# Altium footprint library AltiumLibrary.PcbLib: 85 footprints (part 4 of 6)
Each footprint in its own frame and in the unit in brackets; x right, y up, seen from the top. Pads: shape width x height; smd on the part's side, far side on the other; paste and mask are expansions set on the pad; w line width, h text height; cw(c..) or ccw(c..) is an arc to the next point about the centre after c.
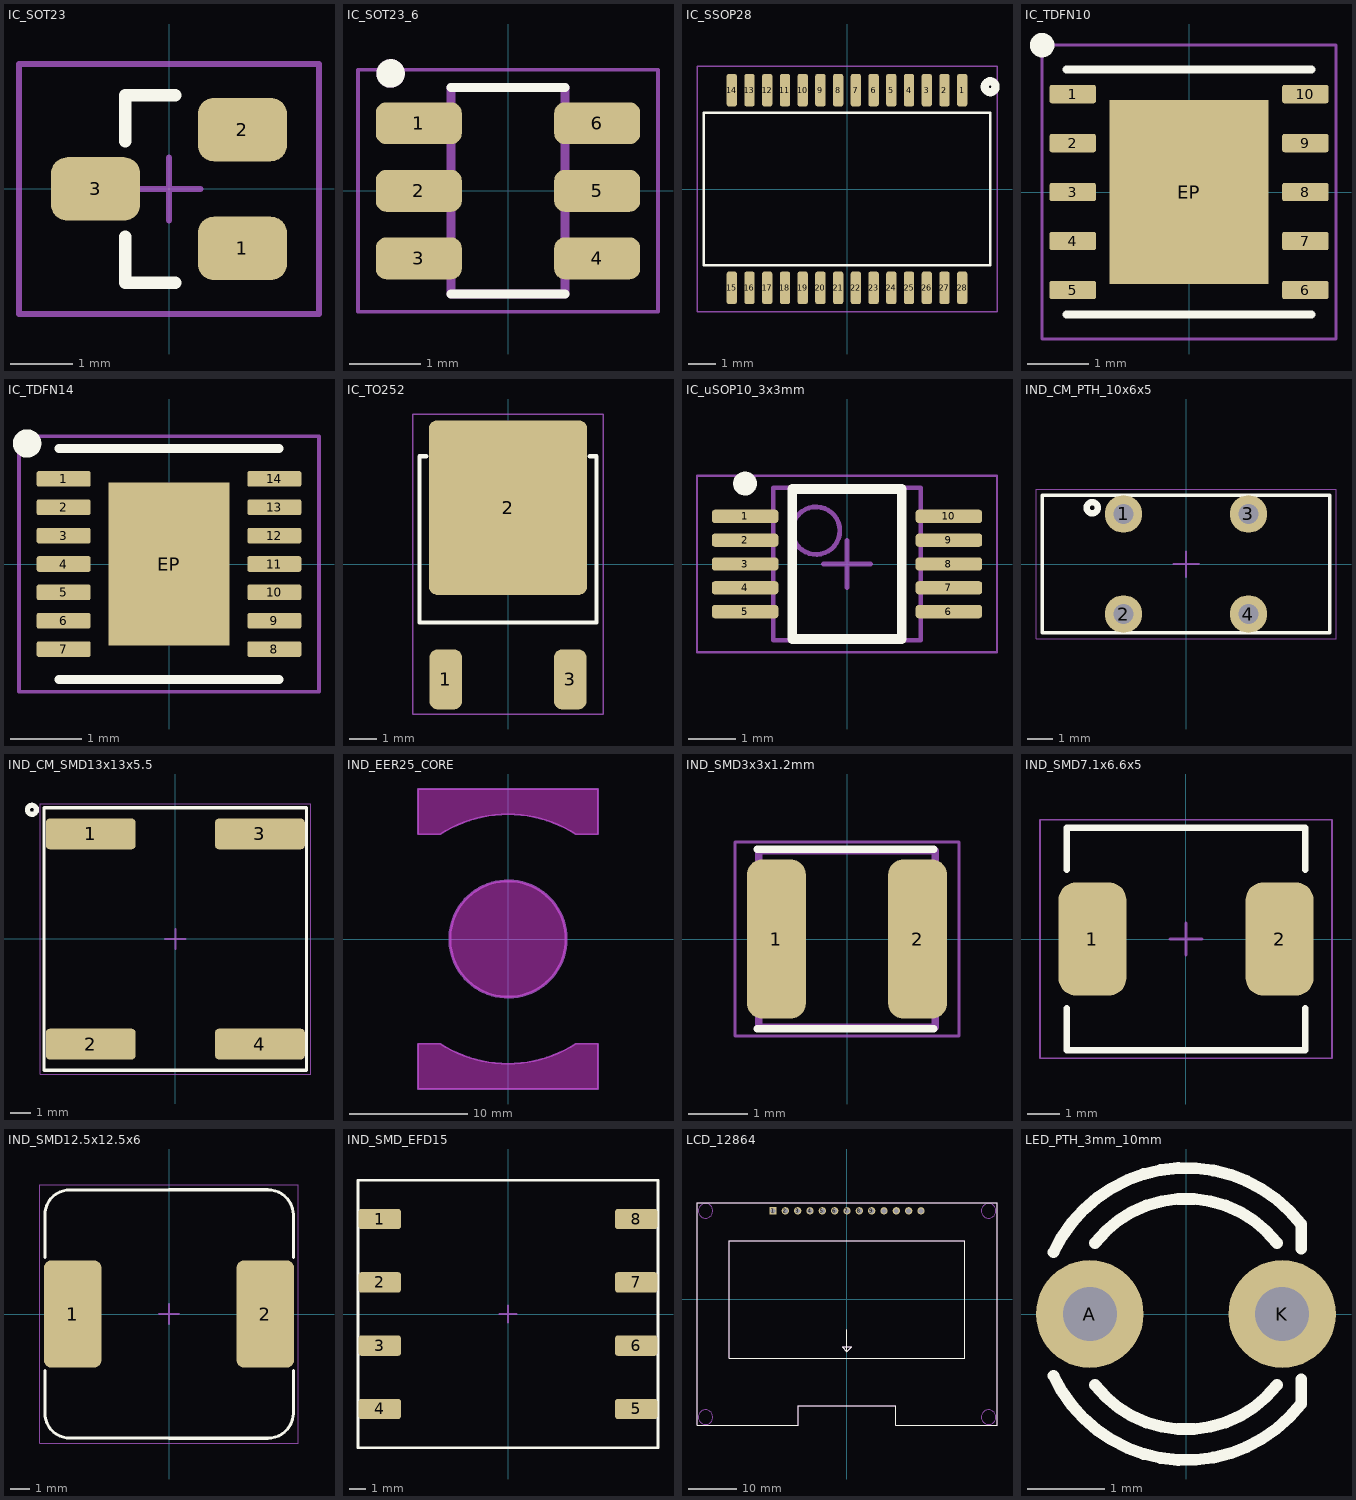
[diagram p3: the footprints below, top view; thin cyan lines are the x and y axes]

## IC_SOT23 [mil] "Generic SOT23 package"
height 62.99
pads (3):
  rrect50% 56x40 smd: 1(46.26,-37.4) 2(46.26,37.4) 3(-46.26,0)
Top Overlay:
  lines w7.87: -27.56,-30 -27.56,-59.06 3.94,-59.06 ; -27.56,30 -27.56,59.06 3.94,59.06
Top Courtyard:
  lines w3.94: -19.69,0 19.68,0 ; 0,-19.69 0,19.68 ; -94.49,-78.74 94.49,-78.74 94.49,78.74 -94.49,78.74 -94.49,-78.74
3D body "SW3DPS-SOT-23-DEFAULT.STEP": height 43.78, standoff 0.48, extent -49.22,-59.06 49.21,59.05

## IC_SOT23_6 [mm]
height 1.45
pads (6):
  rrect50% 1.21x0.59 smd: 1(-1.255,0.95) 2(-1.255,0) 3(-1.255,-0.95) 4(1.255,-0.95) 5(1.255,0) 6(1.255,0.95)
Top Overlay:
  circle w0.2: c-1.651,1.651 r0.1
  lines w0.127: -0.8,-1.45 0.8,-1.45 ; -0.8,1.45 0.8,1.45
Top Assembly (Mech13):
  circle w0.2: c-1.651,1.651 r0.1
  lines w0.127: -0.8,-1.45 -0.8,1.45 0.8,1.45 0.8,-1.45 -0.8,-1.45
Top Courtyard:
  lines w0.05: -2.11,-1.7 -2.11,1.7 2.11,1.7 2.11,-1.7 -2.11,-1.7
3D body "step_temp.STEP": height 1.45, standoff 0, extent -1.4,-1.45 1.4,1.45

## IC_SSOP28 [mm] "SSOP-28 Package"
height 2
pads (28):
  rrect50% 0.38x1.2 smd: 1(4.225,3.625) 2(3.575,3.625) 3(2.925,3.625) 4(2.275,3.625) 5(1.625,3.625) 6(0.975,3.625) 7(0.325,3.625) 8(-0.325,3.625) 9(-0.975,3.625) 10(-1.625,3.625) 11(-2.275,3.625) 12(-2.925,3.625) 13(-3.575,3.625) 14(-4.225,3.625) 15(-4.225,-3.625) 16(-3.575,-3.625) 17(-2.925,-3.625) 18(-2.275,-3.625) 19(-1.625,-3.625) 20(-0.975,-3.625) 21(-0.325,-3.625) 22(0.325,-3.625) 23(0.975,-3.625) 24(1.625,-3.625) 25(2.275,-3.625) 26(2.925,-3.625) 27(3.575,-3.625) 28(4.225,-3.625)
Top Overlay:
  circle w0.3: c5.25,3.75 r0.2
  lines w0.1: -5.25,-2.8 5.25,-2.8 5.25,2.8 -5.25,2.8 -5.25,-2.8
Top Courtyard:
  lines w0.05: -5.5,-4.5 5.5,-4.5 5.5,4.5 -5.5,4.5 -5.5,-0.75 -5.5,-4.5
3D body "SSOP-28.STEP": height 1.92, standoff -0.03, extent -5.25,-4.125 5.25,4.1

## IC_TDFN10 [mm] "Generic TDFN10 package 4x4mm"
height 0.75
pads (11):
  rrect25% 0.76x0.3 smd: 1(-1.9,1.6) 2(-1.9,0.8) 3(-1.9,0) 4(-1.9,-0.8) 5(-1.9,-1.6) 6(1.9,-1.6) 7(1.9,-0.8) 8(1.9,0) 9(1.9,0.8) 10(1.9,1.6)
  rect 2.6x3 smd paste-2: EP(0,0)
Top Overlay:
  circle w0.2: c-2.4,2.4 r0.1
  lines w0.127: -2,-2 2,-2 ; -2,2 2,2
Top Paste:
  region: 0.54,-0.73 -0.54,-0.73 -0.54,0.73 0.54,0.73
Top Courtyard:
  lines w0.05: -2.4,-2.4 -2.4,2.4 2.4,2.4 2.4,-2.4 -2.4,-2.4

## IC_TDFN14 [mm] "Generic TDFN14 package 3x3mm"
height 0.8
pads (15):
  rrect25% 0.76x0.22 smd: 1(-1.485,1.2) 2(-1.485,0.8) 3(-1.485,0.4) 4(-1.485,0) 5(-1.485,-0.4) 6(-1.485,-0.8) 7(-1.485,-1.2) 8(1.485,-1.2) 9(1.485,-0.8) 10(1.485,-0.4) 11(1.485,0) 12(1.485,0.4) 13(1.485,0.8) 14(1.485,1.2)
  rect 1.7x2.3 smd paste-2: EP(0,0)
Top Overlay:
  circle w0.2: c-2,1.7 r0.1
  lines w0.127: -1.55,-1.63 1.55,-1.63 ; -1.55,1.63 1.55,1.63
Top Paste:
  region: 0.54,-0.73 -0.54,-0.73 -0.54,0.73 0.54,0.73
Top Courtyard:
  lines w0.05: -2.115,-1.8 2.115,-1.8 2.115,1.8 -2.115,1.8 -2.115,-1.8
3D body "step_temp.STEP": height 0.8, standoff 0, extent -1.5,-1.5 1.5,1.5

## IC_TO252 [mm] "Generic TO252 package 6.35x9.4mm"
pads (3):
  rrect50% 1.2x2.2 smd: 1(-2.28,-4.23) 3(2.28,-4.23)
  rrect10% 5.8x6.4 smd paste-10: 2(0,2.07)
Top Overlay:
  lines w0.152: -3,3.95 -3.25,3.95 -3.25,-2.15 3.25,-2.15 3.25,3.95 3,3.95
Top Paste:
  rectangle: 0.15,-1.08 2.85,1.92
  rectangle: 0.15,2.22 2.85,5.22
  region: -0.166,1.89 -2.866,1.89 -2.866,-1.11 -0.166,-1.11
  region: -0.166,5.19 -2.866,5.19 -2.866,2.19 -0.166,2.19
Top Courtyard:
  lines w0.05: -3.5,-5.5 -2,-5.5 3.5,-5.5 3.5,5.5 -3.5,5.5 -3.5,-5.5
3D body "TSM60NC1R5CP ROG--3DModel-STEP-554148.STEP": height 2.39, standoff 0.01, extent -3.285,-4.95 3.285,4.95

## IC_uSOP10_3x3mm [mm] "TSSOP, 10-Leads, Body 2,95x3,00mm, Pitch 0,50mm, IPC Medium Density"
height 1.1
pads (10):
  rrect50% 1.4x0.28 smd: 1(-2.14,1) 2(-2.14,0.5) 3(-2.14,0) 4(-2.14,-0.5) 5(-2.14,-1) 6(2.14,-1) 7(2.14,-0.5) 8(2.14,0) 9(2.14,0.5) 10(2.14,1)
Top Overlay:
  circle w0.25: c-2.14,1.69 r0.125
  lines w0.2: -1.15,-1.575 1.15,-1.575 1.15,1.575 -1.15,1.575 -1.15,-1.575
Top Assembly (Mech13):
  circle w0.1: c-0.65,0.7 r0.5
  lines w0.1: -1.55,-1.6 1.55,-1.6 1.55,1.6 -1.55,1.6 -1.55,-1.6
Top Courtyard:
  lines w0.05: -3.15,-1.85 3.15,-1.85 3.15,1.85 -3.15,1.85 -3.15,-1.85
  lines w0.1: -0.5,0 0.5,0 ; 0,-0.5 0,0.5
3D body "TSSOP50P490X110-10N.step": height 1.1, standoff 0, extent -2.45,-1.6 2.45,1.6

## IND_CM_PTH_10x6x5 [mm] "Toroidal common mode choke - 10x6x5 core"
height 5.5
pads (4):
  round 1.5 hole 0.8: 1(-2.5,2) 2(-2.5,-2) 3(2.5,2) 4(2.5,-2)
Top Overlay:
  circle w0.254: c-3.75,2.25 r0.224
  lines w0.152: -5.75,-2.75 5.75,-2.75 5.75,2.75 -5.75,2.75 -5.75,-2.75
Top Courtyard:
  lines w0.05: -6,-3 -6,3 6,3 6,-3 -6,-3
  lines w0.1: -0.5,0 0.5,0 ; 0,-0.5 0,0.5
3D body "Toroide_CM_10x6x5.step": height 11.03, standoff -0.01, extent -5.55,-2.55 5.55,2.55

## IND_CM_SMD13x13x5.5 [mm] "CR7915-AL common mode choke"
height 5.5
pads (4):
  rrect25% 4.45x1.52 smd: 1(-4.19,5.205) 2(-4.19,-5.205) 3(4.19,5.205) 4(4.19,-5.205)
Top Overlay:
  circle w0.254: c-7.1,6.4 r0.224
  lines w0.152: -6.5,-6.5 -6.5,6.5 6.5,6.5 6.5,-6.5 -6.5,-6.5
Top Courtyard:
  lines w0.05: -6.7,-6.7 6.7,-6.7 6.7,6.7 -6.7,6.7 -6.7,-6.7
  lines w0.1: -0.5,0 0.5,0 ; 0,-0.5 0,0.5
3D body "CR7915-AL.STEP": height 5.47, standoff 0.01, extent -6.35,-6.35 6.35,6.35

## IND_EER25_CORE [mm]
Keep-Out Layer:
  board cut-out: 0,-4.95 -0.324,-4.95 -0.968,-4.865 -1.595,-4.697 -2.194,-4.449 -2.756,-4.125 -3.271,-3.73 -3.73,-3.271 -4.125,-2.756 -4.449,-2.194 -4.697,-1.595 -4.865,-0.968 -4.95,-0.324 -4.95,0 -4.95,0.324 -4.865,0.968 -4.697,1.595 -4.449,2.194 -4.125,2.756 -3.73,3.271 -3.271,3.73 -2.756,4.125 -2.194,4.449 -1.595,4.697 -0.968,4.865 -0.324,4.95 0,4.95 0.324,4.95 0.968,4.865 1.595,4.697 2.194,4.449 2.756,4.125 3.271,3.73 3.73,3.271 4.125,2.756 4.449,2.194 4.697,1.595 4.865,0.968 4.95,0.324 4.95,0 4.95,-0.324 4.865,-0.968 4.697,-1.595 4.449,-2.194 4.125,-2.756 3.73,-3.271 3.271,-3.73 2.756,-4.125 2.194,-4.449 1.595,-4.697 0.968,-4.865 0.324,-4.95
  board cut-out: -7.65,8.9 -5.758,8.9 -5.325,9.165 -4.425,9.632 -3.484,10.011 -2.512,10.298 -1.516,10.491 -0.507,10.588 0.507,10.588 1.516,10.491 2.512,10.298 3.484,10.011 4.425,9.632 5.325,9.165 5.758,8.9 7.65,8.9 7.65,12.75 -7.65,12.75
  board cut-out: 7.65,-8.9 5.758,-8.9 5.325,-9.165 4.425,-9.632 3.484,-10.011 2.512,-10.298 1.516,-10.491 0.507,-10.588 -0.507,-10.588 -1.516,-10.491 -2.512,-10.298 -3.484,-10.011 -4.425,-9.632 -5.325,-9.165 -5.758,-8.9 -7.65,-8.9 -7.65,-12.75 7.65,-12.75
Mechanical 6:
  circle w0.254: c0,0 r4.95
  lines w0.152: -7.65,-12.75 7.65,-12.75 7.65,-8.9 5.758,-8.9 cw(c0,0) -5.758,-8.9 -7.65,-8.9 -7.65,-12.75 ; -7.65,8.9 -7.65,12.75 7.65,12.75 7.65,8.9 5.758,8.9 ccw(c0,0) -5.758,8.9 -7.65,8.9
3D body "Untitled.step": height 3, standoff -5, extent -7.4,-12.5 7.4,12.5

## IND_SMD3x3x1.2mm [mm]
height 1.2
pads (2):
  rrect50% 1x2.7 smd: 1(-1.2,0) 2(1.2,0)
Top Overlay:
  lines w0.127: -1.524,-1.524 1.476,-1.524 ; -1.524,1.524 1.476,1.524
Top Assembly (Mech13):
  lines w0.127: -1.5,-1.5 1.5,-1.5 1.5,1.5 -1.5,1.5 -1.5,-1.5
Top Courtyard:
  lines w0.05: -1.905,-1.651 1.905,-1.651 1.905,1.651 -1.905,1.651 -1.905,-1.651
3D body "LQH3NPZ4R7MJRL.STEP": height 1.21, standoff 0.01, extent -1.5,-1.5 1.5,1.5

## IND_SMD7.1x6.6x5 [mm] "Precision Wire Wound Inductor, 2-Leads, Body 7,10x6,60mm, IPC Medium Density"
height 5
pads (2):
  rrect50% 2.1x3.5 smd: 1(-2.9,0) 2(2.9,0)
Top Overlay:
  lines w0.2: -3.7,-2.15 -3.7,-3.45 3.7,-3.45 3.7,-2.15 ; -3.7,2.15 -3.7,3.45 3.7,3.45 3.7,2.15
Top Courtyard:
  lines w0.05: -4.525,-3.7 -4.525,3.7 4.525,3.7 4.525,-3.7 -4.525,-3.7
  lines w0.1: -0.5,0 0.5,0 ; 0,-0.5 0,0.5
3D body "sss.step": height 2.81, standoff 0.01, extent -3.65,-3.3 3.65,3.3

## IND_SMD12.5x12.5x6 [mm] "Wire Wound Inductor, 2-Leads"
height 6
pads (2):
  rrect25% 2.9x5.4 smd: 1(-4.85,0) 2(4.85,0)
Top Overlay:
  lines w0.152: -6.25,-2.85 -6.25,-4.98 ccw(c-4.98,-4.98) -4.98,-6.25 ; -6.25,2.85 -6.25,4.98 cw(c-4.98,4.98) -4.98,6.25 -4.93,6.25 -3.7,6.25 0,6.25 ; -4.93,-6.25 -3.7,-6.25 0,-6.25 ; 0.005,-6.254 3.705,-6.254 4.935,-6.254 ; 0.005,6.254 3.705,6.254 4.935,6.254 ; 4.985,-6.254 ccw(c4.985,-4.984) 6.255,-4.984 6.255,-2.854 ; 4.985,6.254 cw(c4.985,4.984) 6.255,4.984 6.255,2.854
Top Courtyard:
  lines w0.05: -6.5,-6.5 -6.5,6.5 6.5,6.5 6.5,-6.5 -6.5,-6.5
  lines w0.1: -0.5,0 0.5,0 ; 0,-0.5 0,0.5
3D body "srr1260.step": height 6.01, standoff 0.01, extent -6.25,-6.25 6.25,6.25

## IND_SMD_EFD15 [mm] "EFD15 SMD inductor 8 leads"
height 2
pads (8):
  rrect25% 2.5x1.2 smd: 1(-7.6,5.625) 2(-7.6,1.875) 3(-7.6,-1.875) 4(-7.6,-5.625) 5(7.6,-5.625) 6(7.6,-1.875) 7(7.6,1.875) 8(7.6,5.625)
Top Overlay:
  lines w0.152: -8.89,-7.938 8.89,-7.938 8.89,7.938 -8.89,7.938 -8.89,-7.938
Top Courtyard:
  lines w0.05: -8.89,-7.938 8.89,-7.938 8.89,7.938 -8.89,7.938 -8.89,-7.938
  lines w0.1: -0.5,0 0.5,0 ; 0,-0.5 0,0.5
3D body "EFD15_Completo.step": height 7.71, standoff 0.01, extent -8.9,-8 8.9,8

## LCD_12864 [mm] "9.24"
height 9.24
pads (13):
  rrect0% 1.5x1.5 hole 1: 1(-15.24,18.25)
  round 1.5 hole 1: 2(-12.7,18.25) 3(-10.16,18.25) 4(-7.62,18.25) 5(-5.08,18.25) 6(-2.54,18.25) 7(0,18.25) 8(2.54,18.25) 9(5.08,18.25) 10(7.62,18.25) 11(10.16,18.25) 12(12.7,18.25) 13(15.24,18.25)
Top Overlay:
  lines w0.152: 0,-6.25 0,-10.75 ; 15.45,-25.9 30.9,-25.9 30.9,19.9 -30.9,19.9 -30.9,-25.9 -15.45,-25.9 -10,-25.9 -10,-21.9 10,-21.9 10,-25.9 15.5,-25.9 ; 0,-10.75 1,-9.75 -1,-9.75 0,-10.75 ; 24.3,-12.14 24.3,12.14 ; 24.3,-12.14 24.3,12.14 ; 24.3,-12.14 -24.3,-12.14 -24.3,12.14 24.3,12.14
Top Assembly (Mech13):
  circle w0.254: c-29.15,18.25 r1.5
  circle w0.254: c-29.15,-24.25 r1.5
  circle w0.254: c29.15,-24.25 r1.5
  circle w0.254: c29.15,18.25 r1.5
  lines w0.152: 0,-6.25 0,-10.75 ; 15.45,-25.9 30.9,-25.9 30.9,19.9 -30.9,19.9 -30.9,-25.9 -15.45,-25.9 -10,-25.9 -10,-21.9 10,-21.9 10,-25.9 15.5,-25.9 ; 0,-10.75 -1,-9.75 1,-9.75 0,-10.75 ; 24.3,-12.14 -24.3,-12.14 -24.3,12.14 24.3,12.14 ; 24.3,-12.14 24.3,12.14 ; 24.3,-12.14 24.3,12.14
3D body "LCD12864 v2.step": height 9.24, standoff 2.54, extent -30.9,-25.9 30.9,19.9
3D body "TSW-125-06-T-S-LL.step": height 5.23, standoff -2.39, extent -16.51,16.98 16.51,19.52

## LED_PTH_3mm_10mm [mm] "Generic PTH LED. 3mm diameter, 10mm height"
height 10
pads (2):
  round 1.4 hole 0.7: A(-1.25,0) K(1.25,0)
Top Overlay:
  lines w0.152: -1.722,-0.803 ccw(c0,0) 1.497,-1.17 ; -1.722,0.803 cw(c0,0) 1.497,1.17 ; -1.182,-0.923 ccw(c0,0) 1.182,-0.923 ; -1.182,0.923 cw(c0,0) 1.182,0.923 ; 1.5,-1.17 1.5,-0.85 ; 1.5,0.85 1.5,1.17
3D body "780_1.step": height 10, standoff -3.5, extent -1.9,-1.9 1.52,1.9